# Altium schematic symbol library Call.SchLib: 7 symbols
Pins are listed as number, name and electrical type; pins without a type are passive.

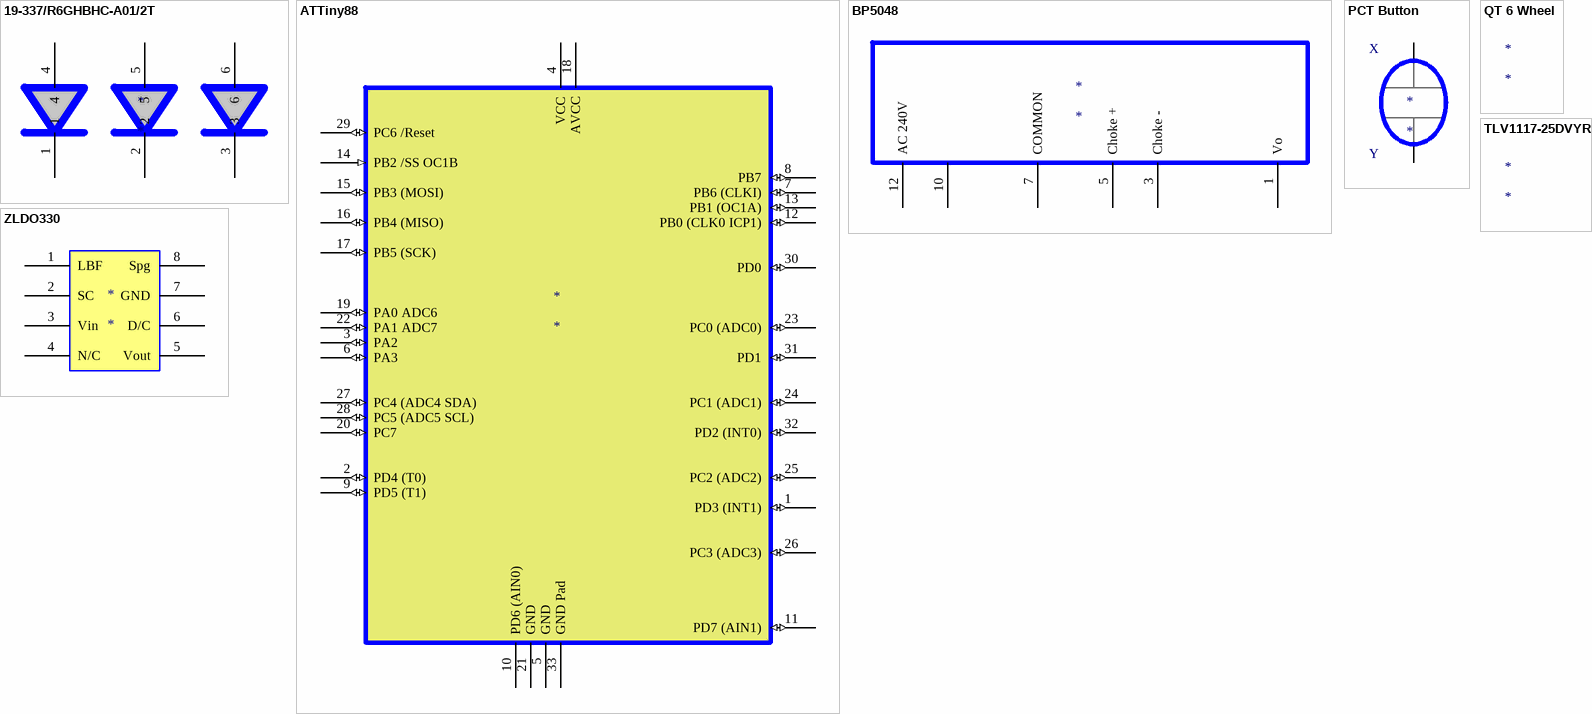
[diagram p0: symbols 19-337/R6GHBHC-A01/2T to ZLDO330]

## 19-337/R6GHBHC-A01/2T
designator *
pins: 1, 2, 3, 4, 5, 6

## ATTiny88
designator *
pins: 1 PD3 (INT1) (io), 2 PD4 (T0) (io), 3 PA2 (io), 4 VCC, 5 GND, 6 PA3 (io), 7 PB6 (CLKI) (io), 8 PB7 (io), 9 PD5 (T1) (io), 10 PD6 (AIN0), 11 PD7 (AIN1) (io), 12 PB0 (CLK0 ICP1) (io), 13 PB1 (OC1A) (io), 14 PB2 /SS OC1B (in), 15 PB3 (MOSI) (io), 16 PB4 (MISO) (io), 17 PB5 (SCK) (io), 18 AVCC, 19 PA0 ADC6 (io), 20 PC7 (io), 21 GND, 22 PA1 ADC7 (io), 23 PC0 (ADC0) (io), 24 PC1 (ADC1) (io), 25 PC2 (ADC2) (io), 26 PC3 (ADC3) (io), 27 PC4 (ADC4 SDA) (io), 28 PC5 (ADC5 SCL) (io), 29 PC6 /Reset (io), 30 PD0 (io), 31 PD1 (io), 32 PD2 (INT0) (io), 33 GND Pad

## BP5048
designator *
pins: 1 Vo, 3 Choke -, 5 Choke +, 7 COMMON, 10, 12 AC 240V

## PCT Button
designator *
pins: 0 X, 1 Y

## QT 6 Wheel
designator *

## TLV1117-25DVYR
designator *

## ZLDO330
designator *
pins: 1 LBF, 2 SC, 3 Vin, 4 N/C, 5 Vout, 6 D/C, 7 GND, 8 Spg